# EAGLE library part MCP6002-E/MS (library MCP6002-E_MS)
Check prices <https://pricing.snapeda.com/parts/MCP6002-E/MS/Microchip%20Technology/view-part?ref=eda>
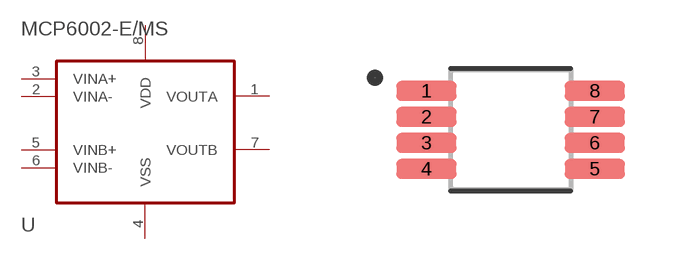
[diagram p0: symbol with the pads of SOP65P490X110-8N; footprint SOP65P490X110-8N]

Designator prefix -

## MCP6002-E/MS (AVAILABILITY: Good; DESCRIPTION: IC OPAMP GP 2 CIRCUIT 8MSOP; MF: Microchip Technology; MP: MCP6002-E/MS; PACKAGE: MSOP-8 Microchip; PRICE: None; PURCHASE-URL: https://pricing.snapeda.com/search/part/MCP6002-E/MS/?ref=eda)  [SOP65P490X110-8N]
1  VOUTA  out
2  VINA-  in
3  VINA+  in
4  VSS  pwr
5  VINB+  in
6  VINB-  in
7  VOUTB  out
8  VDD  pwr

## Footprint SOP65P490X110-8N (pad centres in mm)
smd 1.5 x 0.49: 1 -2.105,0.975; 2 -2.105,0.325; 3 -2.105,-0.325; 4 -2.105,-0.975; 5 2.105,-0.975; 6 2.105,-0.325; 7 2.105,0.325; 8 2.105,0.975